# Altium schematic symbol library CDCV304.SchLib: 1 symbol
Pins are listed as number, name and electrical type; pins without a type are passive.

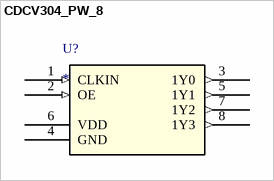
[diagram p0: symbol CDCV304_PW_8]

## CDCV304_PW_8
designator U?
200-MHz General-Purpose Clock Buffer, PCI-X Compliant; Manufacturer: Texas Instruments; GENERIC_PART_NUMBER: CDCV304; INDUSTRY_STD_PKG_TYPE: TSSOP; FAMILY_NAME: SINGLE ENDED(NP); PIN_COUNT: 8; PACKAGE_DESIGNATOR: PW; Datasheet_URL: http://www.ti.com/lit/gpn/CDCV304; Value: Value; Type: Type; RefDes: RefDes
footprint PW8
pins: 1 CLKIN (in), 2 OE (in), 3 1Y0 (out), 4 GND (power), 5 1Y1 (out), 6 VDD (power), 7 1Y2 (out), 8 1Y3 (out)